# Altium footprint library Connectors_Lib.PcbLib: 3 footprints
Each footprint in its own frame and in the unit in brackets; x right, y up, seen from the top. Pads: shape width x height; smd on the part's side, far side on the other; paste and mask are expansions set on the pad; w line width, h text height; cw(c..) or ccw(c..) is an arc to the next point about the centre after c.
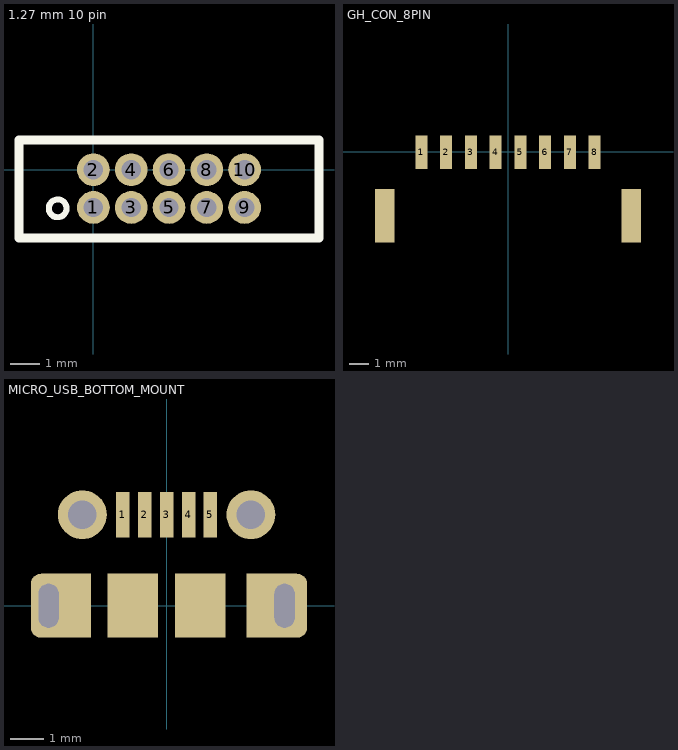
[diagram p0: the footprints below, top view; thin cyan lines are the x and y axes]

## 1.27 mm 10 pin [mm] "1.27 mm 10 pin"
pads (10):
  round 1.1 hole 0.65: 1(0,-1.27) 2(0,0) 3(1.27,-1.27) 4(1.27,0) 5(2.54,-1.27) 6(2.54,0) 7(3.81,-1.27) 8(3.81,0) 9(5.08,-1.27) 10(5.08,0)
Top Overlay:
  circle w0.2: c-1.2,-1.3 r0.3
  lines w0.3: -2.5,-2.3 -2.5,1 7.58,1 7.58,-2.3 -2.5,-2.3

## GH_CON_8PIN [mm]
pads (10):
  rect 0.6x1.7 smd: 1(-4.375,-0.025) 2(-3.125,-0.025) 3(-1.875,-0.025) 4(-0.625,-0.025) 5(0.625,-0.025) 6(1.875,-0.025) 7(3.125,-0.025) 8(4.375,-0.025)
  rect 1x2.7 smd: ""(-6.225,-3.225) ""(6.225,-3.225)

## MICRO_USB_BOTTOM_MOUNT [mm]
pads (17):
  rect 0.4x1.35 smd: 1(-1.3,2.7) 2(-0.65,2.7) 3(0,2.7) 4(0.65,2.7) 5(1.3,2.7)
  rrect100% 0.6x1.3 hole 1.3 slot 0.6 at 0 deg: ""(-3.5,0) ""(3.5,0)
  rrect50% 1.2x1.9 smd: ""(-3.429,0) ""(3.571,0)
  rrect0% 1.2x1.9 smd: ""(-2.85,0) ""(2.971,0)
  round 1.45 smd: ""(-2.5,2.7) ""(2.5,2.7)
  round 0.85 hole 0.85: ""(-2.5,2.7) ""(2.5,2.7)
  rect 1.5x1.9 smd: ""(-1,0) ""(1,0)
3D body "1050171001.stp": height 2.75, standoff -0.56, extent -3.75,-2.172 3.75,2.828